# Altium schematic symbol library U_bq4050.SchLib: 1 symbol
Pins are listed as number, name and electrical type; pins without a type are passive.

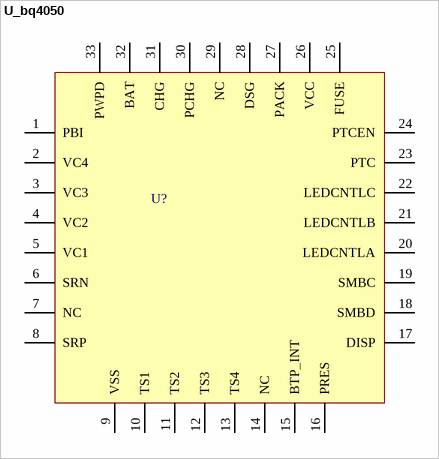
[diagram p0: symbol U_bq4050]

## U_bq4050
designator U?, comment bq4050  (value not drawn)
pins: 1 PBI, 2 VC4, 3 VC3, 4 VC2, 5 VC1, 6 SRN, 7 NC, 8 SRP, 9 VSS, 10 TS1, 11 TS2, 12 TS3, 13 TS4, 14 NC, 15 BTP_INT, 16 PRES, 17 DISP, 18 SMBD, 19 SMBC, 20 LEDCNTLA, 21 LEDCNTLB, 22 LEDCNTLC, 23 PTC, 24 PTCEN, 25 FUSE, 26 VCC, 27 PACK, 28 DSG, 29 NC, 30 PCHG, 31 CHG, 32 BAT, 33 PWPD